# EAGLE library part ILQ1 (library optocoupler)
SIEMENS OPTO COUPLER
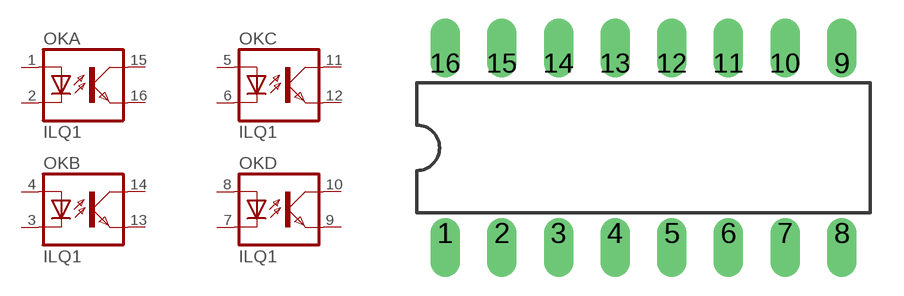
[diagram p5: symbol with the pads of DIL16; footprint DIL16]

Designator prefix OK; gates A=OK B=OK C=OK D=OK

## ILQ1 (MF: VISHAY/TELEFUNKEN; MPN: ILQ1; OC_FARNELL: 1469501; OC_NEWARK: 88K1954)  [DIL16]
1  A:A  pas
2  A:C  pas
3  B:C  pas
4  B:A  pas
5  C:A  pas
6  C:C  pas
7  D:C  pas
8  D:A  pas
9  D:EMIT  pas
10  D:COL  pas
11  C:COL  pas
12  C:EMIT  pas
13  B:EMIT  pas
14  B:COL  pas
15  A:COL  pas
16  A:EMIT  pas

## Footprint DIL16 (pad centres in mm)
Dual In Line Package
drill 0.813 offset: 1 -8.89,-3.81; 2 -6.35,-3.81; 3 -3.81,-3.81; 4 -1.27,-3.81; 5 1.27,-3.81; 6 3.81,-3.81; 7 6.35,-3.81; 8 8.89,-3.81; 9 8.89,3.81; 10 6.35,3.81; 11 3.81,3.81; 12 1.27,3.81; 13 -1.27,3.81; 14 -3.81,3.81; 15 -6.35,3.81; 16 -8.89,3.81